# EAGLE library part VATRONICS_RGB_LCD (library OpenEnergyMonitor)
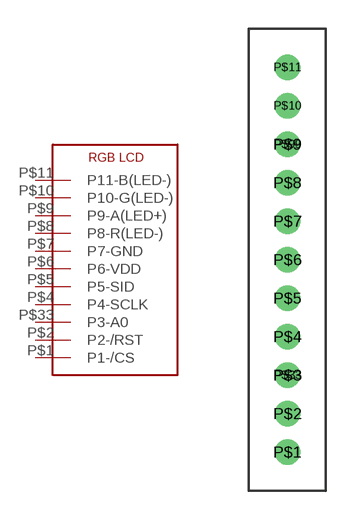
[diagram p0: symbol with the pads of 1X11_2MM_LCD_HEADER; footprint 1X11_2MM_LCD_HEADER]

Designator prefix -

## VATRONICS_RGB_LCD  [1X11_2MM_LCD_HEADER]
P$1  P1-/CS
P$2  P2-/RST
P$4  P4-SCLK
P$5  P5-SID
P$6  P6-VDD
P$7  P7-GND
P$8  P8-R(LED-)
P$9  P9-A(LED+)
P$10  P10-G(LED-)
P$11  P11-B(LED-)
P$33  P3-A0

## Footprint 1X11_2MM_LCD_HEADER (pad centres in mm)
11 pin 1 row 2mm pitch header
drill 0.8: P$1 0,0; P$2 0,2; P$3 0,4; P$4 0,6; P$5 0,8; P$6 0,10; P$7 0,12; P$8 0,14; P$9 0,16; P$10 0,18; P$11 0,20; P$33 0,4; P$99 0,16